# Altium integrated library AD8236.IntLib: 1 symbol
Pins are listed as number, name and electrical type; pins without a type are passive.

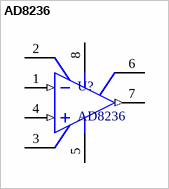
[diagram p0: symbol AD8236]

## AD8236
designator U?
40uA Micropower Instrumentation Amplifier with Zero Crossover Distortion; Fabricante: Analog Devices; Autor: ROUX, Federico G.(rouxfederico@gmail.com); Fecha: 07/2011; Empresa: NEROX S.R.L.; URL: www.analog.com; Package: 8-Lead Mini Small Outline Package (MSOP)
footprint RM-8 (Shrink Small Outline, MSOP; 8 Leads; Body Width 3 mm; Pitch 0.65 mm)
pins: 1 -IN (in), 2 RG, 3 REF, 4 +IN (in), 5 V- (power), 6 RG, 7 OUT (out), 8 V+ (power)